# Altium footprint library Diode_4x2.54.PcbLib: 1 footprints
Each footprint in its own frame and in the unit in brackets; x right, y up, seen from the top. Pads: shape width x height; smd on the part's side, far side on the other; paste and mask are expansions set on the pad; w line width, h text height; cw(c..) or ccw(c..) is an arc to the next point about the centre after c.
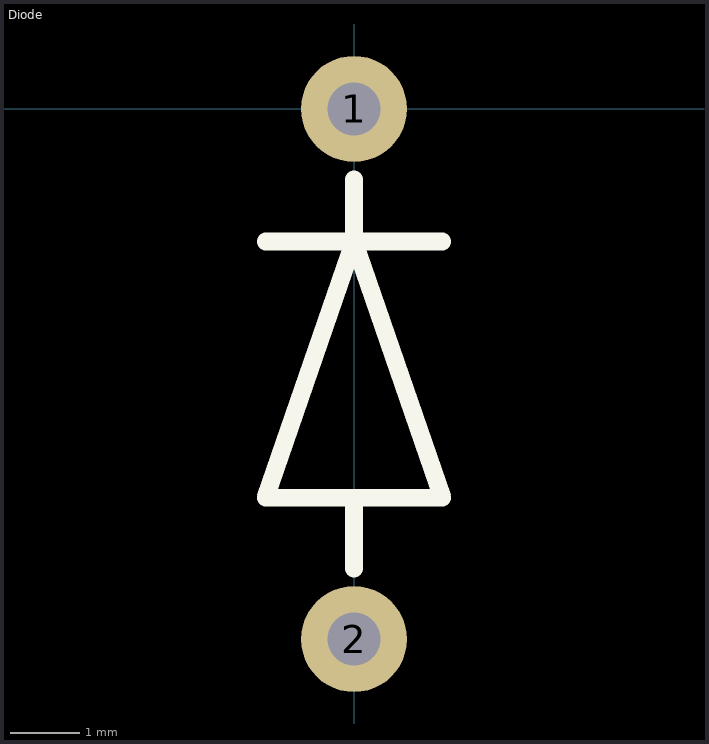
[diagram p0: the footprint, top view; thin cyan lines are the x and y axes]

## Diode [mil]
pads (2):
  round 60 hole 30: 1(0,0) 2(0,-300)
Top Overlay:
  lines w10: -50,-75 50,-75 ; 0,-260 0,-220 ; 0,-40 0,-75 ; 0,-75 -50,-220 50,-220 0,-75